# Altium schematic symbol library Trans,NPN,40V,600mA,SOT523.Schlib: 1 symbol
Pins are listed as number, name and electrical type; pins without a type are passive.

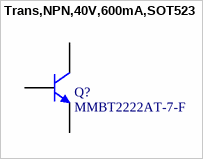
[diagram p0: symbol Trans,NPN,40V,600mA,SOT523]

## Trans,NPN,40V,600mA,SOT523
designator Q?, comment MMBT2222AT-7-F
Bipolar (BJT) Transistor NPN 40 V 600 mA 300MHz 150 mW Surface Mount SOT-523
pins: 1 B, 2 E, 3 C